# Altium schematic symbol library DRClib.SchLib: 21 symbols
Pins are listed as number, name and electrical type; pins without a type are passive.

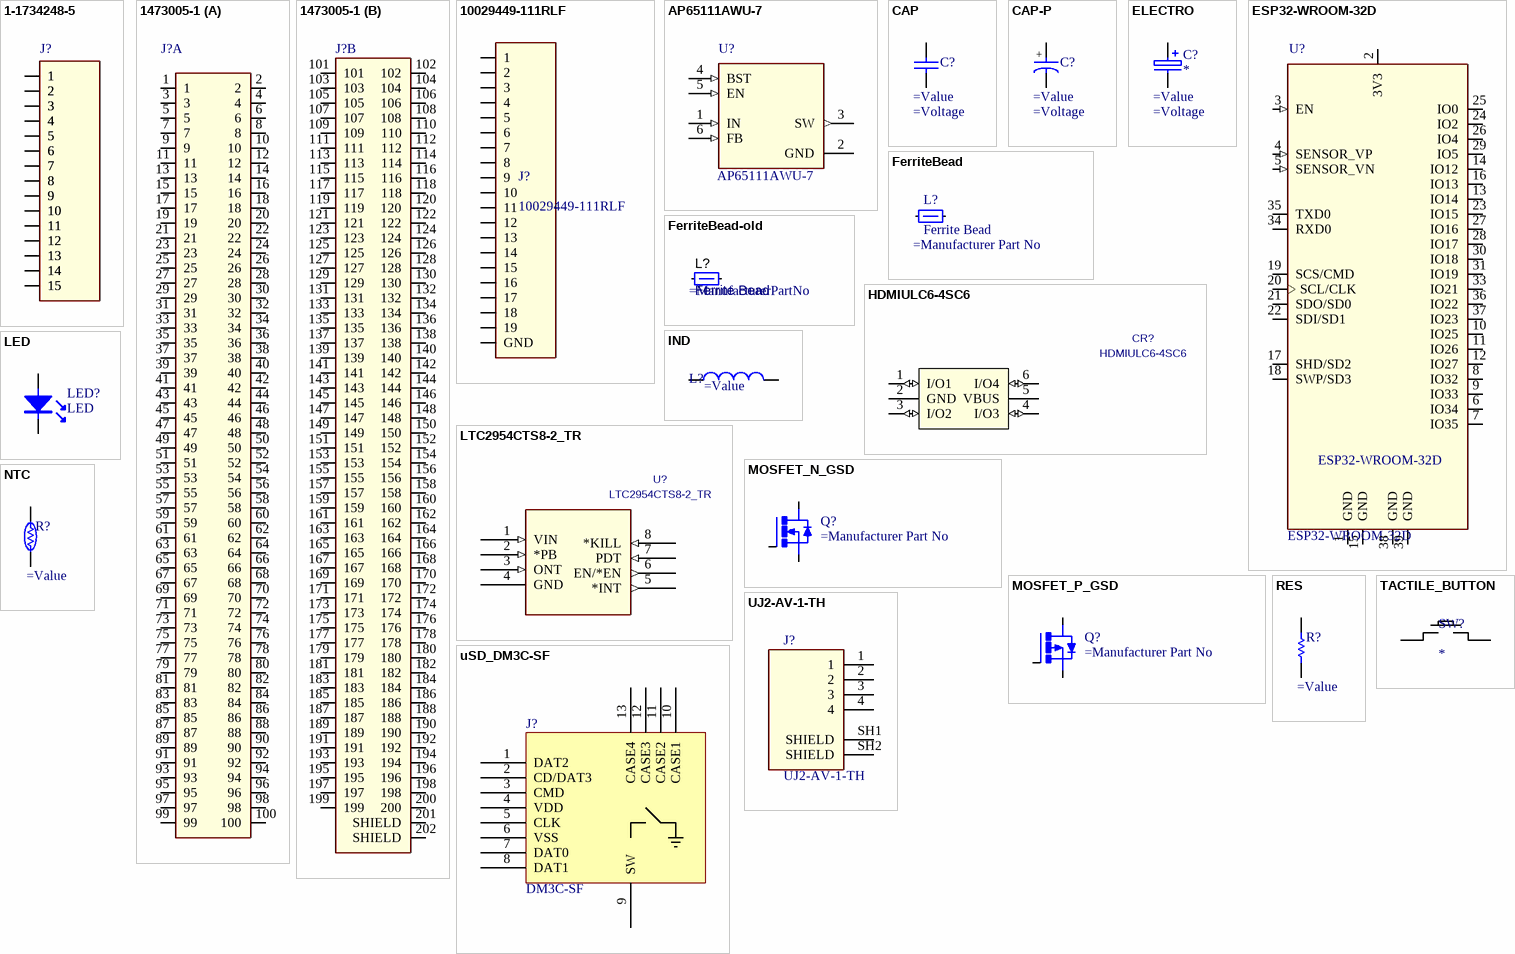
[diagram p0: symbols 1-1734248-5 to uSD_DM3C-SF]

## 1-1734248-5
designator J?  (value not drawn)
Conn FPC Connector SKT 15 POS 1mm Solder ST SMD T/R; MF: TE Connectivity; Digi-Key_Part_Number: A101418CT-ND; Digi-Key_Purchase_URL: https://www.digikey.com.au/product-detail/en/te-connectivity-amp-connectors/1-1734248-5/A101418CT-ND/2567554?utm_source=snapeda&utm_medium=aggregator&utm_campaign=symbol; Package: None; SnapEDA_Link: https://www.snapeda.com/parts/1-1734248-5/TE%20Connectivity%20AMP%20Connectors/view-part/?ref=snap; TE_purchase_URL: https://www.te.com/usa-en/product-1-1734248-5.html?te_bu=Cor&te_type=disp&te_campaign=seda_glo_cor-seda-global-disp-prtnr-fy19-seda-model-bom-cta_sma-317_1&elqCampaignId=32493; MP: 1-1734248-5; EU_RoHS_Compliance: Compliant; Value: *
footprint *TE_1-1734248-5_1-1734248-5(Primary)
footprint 1-1734248-5
pins: 1, 1_1 1, 2, 2_1 2, 3, 3_1 3, 4, 4_1 4, 5, 5_1 5, 6, 6_1 6, 7, 7_1 7, 8, 8_1 8, 9, 9_1 9, 10, 10_1 10, 11, 11_1 11, 12, 12_1 12, 13, 13_1 13, 14, 14_1 14, 15, 15_1 15

## 1473005-1
designator J?  (value not drawn)
SEMI HARD TRAY DDR SOCKET 200P; Number_of_Positions: 200; Centerline_Pitch: .6 mm[.024 in]; MF: TE Connectivity; MP: 1473005-1; Product_Type: Socket; Digi-Key_Purchase_URL: https://www.digikey.com.au/product-detail/en/te-connectivity-amp-connectors/1473005-1/A99605-ND/1890691?utm_source=snapeda&utm_medium=aggregator&utm_campaign=symbol; SnapEDA_Link: https://www.snapeda.com/parts/1473005-1/TE%20Connectivity%20AMP%20Connectors/view-part/?ref=snap; TE_purchase_URL: https://www.te.com/usa-en/product-1473005-1.html?te_bu=Cor&te_type=disp&te_campaign=seda_glo_cor-seda-global-disp-prtnr-fy19-seda-model-bom-cta_sma-317_1&elqCampaignId=32493; Package: None; Digi-Key_Part_Number: A99605-ND; Value: *
footprint 1473005-1
part A pins: 1, 2, 3, 4, 5, 6, 7, 8, 9, 10, 11, 12, 13, 14, 15, 16, 17, 18, 19, 20, 21, 22, 23, 24, 25, 26, 27, 28, 29, 30, 31, 32, 33, 34, 35, 36, 37, 38, 39, 40, 41, 42, 43, 44, 45, 46, 47, 48, 49, 50, 51, 52, 53, 54, 55, 56, 57, 58, 59, 60, 61, 62, 63, 64, 65, 66, 67, 68, 69, 70, 71, 72, 73, 74, 75, 76, 77, 78, 79, 80, 81, 82, 83, 84, 85, 86, 87, 88, 89, 90, 91, 92, 93, 94, 95, 96, 97, 98, 99, 100
part B pins: 101, 102, 103, 104, 105, 106, 107, 108, 109, 110, 111, 112, 113, 114, 115, 116, 117, 118, 119, 120, 121, 122, 123, 124, 125, 126, 127, 128, 129, 130, 131, 132, 133, 134, 135, 136, 137, 138, 139, 140, 141, 142, 143, 144, 145, 146, 147, 148, 149, 150, 151, 152, 153, 154, 155, 156, 157, 158, 159, 160, 161, 162, 163, 164, 165, 166, 167, 168, 169, 170, 171, 172, 173, 174, 175, 176, 177, 178, 179, 180, 181, 182, 183, 184, 185, 186, 187, 188, 189, 190, 191, 192, 193, 194, 195, 196, 197, 198, 199, 200, 201 SHIELD, 202 SHIELD

## 10029449-111RLF
designator J?
CONN RCPT 1.4 HDMI 19POS R/A
footprint 10029449-111RLF (CONN RCPT 1.4 HDMI 19POS SMD R/A)
pins: 0 GND, 1, 2, 3, 4, 5, 6, 7, 8, 9, 10, 11, 12, 13, 14, 15, 16, 17, 18, 19

## AP65111AWU-7
designator U?
Dcdc Conv Hv Buck Tsot26 t&r 3k; MF: Diodes Inc.; Digi-Key_Purchase_URL: https://www.digikey.com.au/product-detail/en/diodes-incorporated/AP65111AWU-7/AP65111AWU-7DICT-ND/7652826?utm_source=snapeda&utm_medium=aggregator&utm_campaign=symbol; MP: AP65111AWU-7; Package: TSOT-23-6 Diodes Inc.; SnapEDA_Link: https://www.snapeda.com/parts/AP65111AWU-7/Diodes%20Inc./view-part/?ref=snap; Digi-Key_Part_Number: AP65111AWU-7DICT-ND; Value: *
footprint SOT95P280X100-6N
pins: 1 IN (in), 2 GND (power), 3 SW (out), 4 BST (in), 5 EN (in), 6 FB (in)

## CAP
designator C?  (value not drawn)
=Description; Value: =Value; Voltage: =Voltage
footprint C0603
pins: 1, 2

## CAP-P
designator C?  (value not drawn)
=Description; Value: =Value; Voltage: =Voltage
pins: 1, 2
text: +

## ELECTRO
designator C?
=Description; Voltage: =Voltage; Value: =Value
pins: 1, 2

## ESP32-WROOM-32D
designator U?
IC: SoC; GPIO, I2C, I2S, IR, SD, SDIO, SPI, UART; 2.7Ã·3.6VDC; 20dBm; MF: Espressif Systems; MP: ESP32-WROOM-32D; Package: Module Espressif Systems; Price: None; Availability: Unavailable; SnapEDA_Link: https://www.snapeda.com/parts/ESP32-WROOM-32D/Espressif%20Systems/view-part/?ref=snap; Value: *
footprint ESP32-WROOM-32D
pins: 1 GND (power), 2 3V3 (power), 3 EN (in), 4 SENSOR_VP (in), 5 SENSOR_VN (in), 6 IO34 (io), 7 IO35 (io), 8 IO32 (io), 9 IO33 (io), 10 IO25 (io), 11 IO26 (io), 12 IO27 (io), 13 IO14 (io), 14 IO12 (io), 15 GND (power), 16 IO13 (io), 17 SHD/SD2 (io), 18 SWP/SD3 (io), 19 SCS/CMD (io), 20 SCL/CLK (io), 21 SDO/SD0 (io), 22 SDI/SD1 (io), 23 IO15 (io), 24 IO2 (io), 25 IO0 (io), 26 IO4 (io), 27 IO16 (io), 28 IO17 (io), 29 IO5 (io), 30 IO18 (io), 31 IO19 (io), 33 IO21 (io), 34 RXD0 (io), 35 TXD0 (io), 36 IO22 (io), 37 IO23 (io), 38 GND (power), 39 GND (power)

## FerriteBead
designator L?, comment Ferrite Bead
=Description; Manufacturer Part No: =Manufacturer Part No
pins: 1, 2

## FerriteBead-old
designator L?, comment Ferrite Bead
=Description; Manufacturer Part No: =ManufacturerPartNo
pins: 1, 2

## HDMIULC6-4SC6
designator CR?
C: Copyright (C) 2015 Accelerated Designs. All rights reserved; Vendor: STMicroelectronics; Built_By: EMA_UL_Team; Value: HDMIULC6-4SC6; Manufacturer_Part_Number: HDMIULC6-4SC6
footprint SOT23-6L
pins: 1 I/O1 (io), 2 GND (power), 3 I/O2 (io), 4 I/O3 (io), 5 VBUS (power), 6 I/O4 (io)

## IND
designator L?
=Description; Value: =Value
pins: 1, 2

## LED
designator LED?
footprint 0603-LED
pins: A, K

## LTC2954CTS8-2_TR
designator U?
Manufacturer_Part_Number: LTC2954CTS8-2#TRMPBF; Vendor: Linear Technology; Built_By: EMA_UL_Team; Value: LTC2954CTS8-2_TR
footprint TSOT-23_TS8
pins: 1 VIN (in), 2 *PB (in), 3 ONT (in), 4 GND (power), 5 *INT (out), 6 EN/*EN (out), 7 PDT (in), 8 *KILL (in)

## MOSFET_N_GSD
designator Q?
=Description
footprint SOT23-3
pins: 1 G, 2 S, 3 D

## MOSFET_P_GSD
designator Q?
=Description
footprint SOT23-3
pins: 1 G, 2 S, 3 D

## NTC
designator R?
=Description; Value: =Value
pins: 1, 2

## RES
designator R?
=Description; Value: =Value
footprint R0603
pins: 1, 2

## TACTILE_BUTTON
designator SW?
footprint TACTILE_BUTTOn
pins: 1, 2 1

## UJ2-AV-1-TH
designator J?
Standard A Type 4 Pin Vertical 3 Âµin Plating Through Hole USB Jack 2.0; MF: CUI Inc.; Digi-Key_Part_Number: 102-3995-ND; Digi-Key_Purchase_URL: https://www.digikey.com.au/product-detail/en/cui-inc/UJ2-AV-1-TH/102-3995-ND/6187910?utm_source=snapeda&utm_medium=aggregator&utm_campaign=symbol; Package: None; SnapEDA_Link: https://www.snapeda.com/parts/UJ2-AV-1-TH/CUI%20Inc./view-part/?ref=snap; MP: UJ2-AV-1-TH; CUI_purchase_URL: https://www.cui.com/product/interconnect/usb-connectors/type-a/uj2-av-th-series?utm_source=snapeda.com&utm_medium=referral&utm_campaign=snapedaBOM; Value: *
footprint UJ2-AV-1-TH
pins: 1, 2, 3, 4, SH1 SHIELD, SH2 SHIELD

## uSD_DM3C-SF
designator J?, comment DM3C-SF
=description
footprint USD_DM3CS
pins: 1 DAT2, 2 CD/DAT3, 3 CMD, 4 VDD, 5 CLK, 6 VSS, 7 DAT0, 8 DAT1, 9 SW, 10 CASE1, 11 CASE2, 12 CASE3, 13 CASE4